# EAGLE library part MICROSD_SOCKET (library Connectors)
Micro SD Card Push/Pull Card Socket
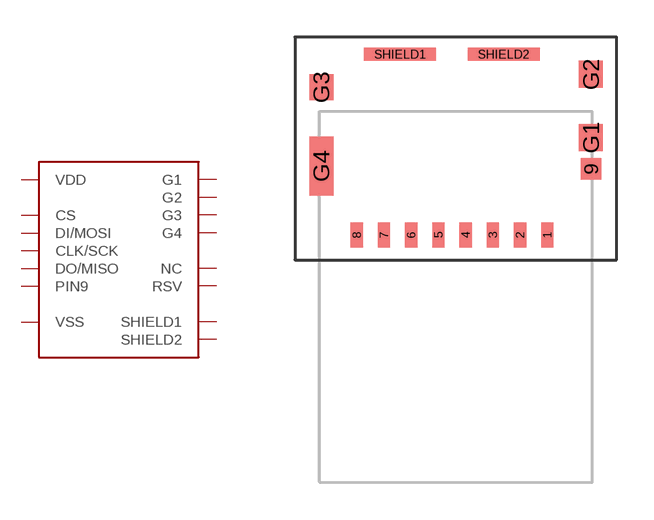
[diagram p0: symbol with the pads of 1932739; footprint 1932739]

Designator prefix U

## MICROSD_SOCKET (DIGIKEYPART#: A118085CT-ND)  [1932739]
1  NC
2  CS
3  DI/MOSI
4  VDD
5  CLK/SCK
6  VSS
7  DO/MISO
8  RSV
9  PIN9
G1  G1
G2  G2
G3  G3
G4  G4
SHIELD1  SHIELD1
SHIELD2  SHIELD2

## Footprint 1932739 (pad centres in mm)
smd 0.5 x 1: 1 7.7,0; 2 6.6,0; 3 5.5,0; 4 4.4,0; 5 3.3,0; 6 2.2,0; 7 1.1,0; 8 0,0
smd 0.84 x 0.87: 9 9.465,2.67
smd 0.97 x 1.08: G1 9.465,3.94
smd 0.97 x 1.1: G2 9.465,6.5
smd 0.97 x 1.05: G3 -1.435,5.975
smd 0.97 x 2.38: G4 -1.435,2.79
smd 2.9 x 0.52: SHIELD1 1.75,7.31; SHIELD2 5.94,7.31